# EAGLE library part MCP4728A1-E_UN (library SamacSys_Parts)
Microchip MCP4728A1-E/UN, 4-Channel 12 bit Serial DAC, 10-Pin MSOP Source: Datasheet <http://ww1.microchip.com/downloads/en/devicedoc/22187e.pdf>
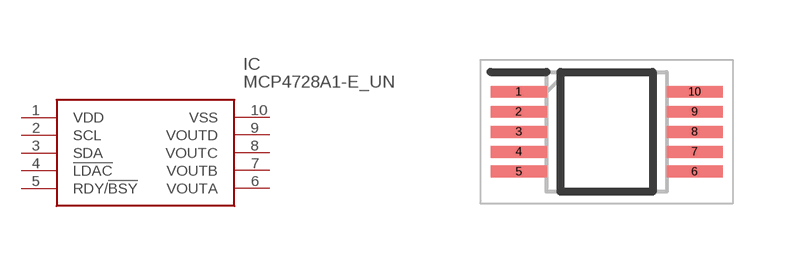
[diagram p104: symbol with the pads of SOP50P490X110-10N; footprint SOP50P490X110-10N]

Designator prefix IC

## MCP4728A1-E_UN (DESCRIPTION: Microchip MCP4728A1-E/UN, 4-Channel 12 bit Serial DAC, 10-Pin MSOP; HEIGHT: 1.1mm; MANUFACTURER_NAME: Microchip; MANUFACTURER_PART_NUMBER: MCP4728A1-E/UN; MOUSER_PART_NUMBER: 579-MCP4728A1-E/UN; MOUSER_PRICE-STOCK: https://www.mouser.co.uk/ProductDetail/Microchip-Technology/MCP4728A1-E-UN?qs=X98pPdo4MruV3rtzRg0Tuw%3D%3D)  [SOP50P490X110-10N]
1  VDD
2  SCL
3  SDA
4  !LDAC
5  RDY/!BSY
6  VOUTA
7  VOUTB
8  VOUTC
9  VOUTD
10  VSS

## Footprint SOP50P490X110-10N (pad centres in mm)
DGS (S-PDSO-G10)
smd 1.4 x 0.3: 1 -2.2,1; 2 -2.2,0.5; 3 -2.2,0; 4 -2.2,-0.5; 5 -2.2,-1; 6 2.2,-1; 7 2.2,-0.5; 8 2.2,0; 9 2.2,0.5; 10 2.2,1